# EAGLE library part FXOS8700CQ (library chips)
Accelerometer, Magnetometer, 3 Axis Sensor, I2C/SPI
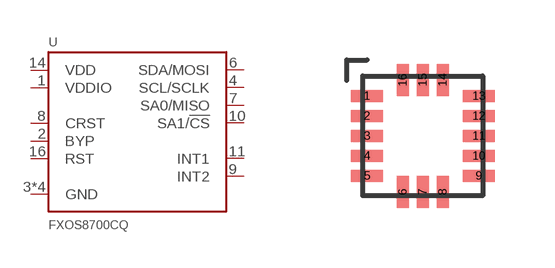
[diagram p63: symbol with the pads of QFN-16-3MM_NOPAD; footprint QFN-16-3MM_NOPAD]

Designator prefix U

## FXOS8700CQ (DIGIKEY: FXOS8700CQR1CT-ND; MPN: FXOS8700CQR1)  [QFN-16-3MM_NOPAD]
1  VDDIO
2  BYP
3  GND
4  SCL/SCLK
5  GND
6  SDA/MOSI
7  SA0/MISO
8  CRST
9  INT2
10  SA1/!CS
11  INT1
12  GND
13  GND
14  VDD
16  RST

## Footprint QFN-16-3MM_NOPAD (pad centres in mm)
smd 0.8 x 0.3: 1 -1.4,1; 2 -1.4,0.5; 3 -1.4,0; 4 -1.4,-0.5; 5 -1.4,-1; 9 1.4,-1; 10 1.4,-0.5; 11 1.4,0; 12 1.4,0.5; 13 1.4,1
smd 0.3 x 0.8: 6 -0.5,-1.4; 7 0,-1.4; 8 0.5,-1.4; 14 0.5,1.4; 15 0,1.4; 16 -0.5,1.4